# EAGLE library part OPA355 (library IC)
Texas Instruments OPA355 200MHz, CMOS Operationa Amplifier with Shutdown
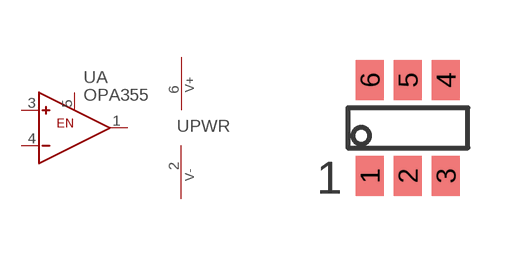
[diagram p125: symbol with the pads of SOT23-6; footprint SOT23-6]

Designator prefix -; gates A=OPAMP-EN PWR=PWR_V+_V-

## OPA355  [SOT23-6]
1  A:OUT  out
2  PWR:V-  pwr
3  A:IN+  in
4  A:IN-  in
5  A:EN  in
6  PWR:V+  pwr

## Footprint SOT23-6 (pad centres in mm)
smd 0.7 x 1: 1 -0.95,-1.2; 2 0,-1.2; 3 0.95,-1.2; 4 0.95,1.2; 5 0,1.2; 6 -0.95,1.2